# Altium footprint library mdriver2_control.PcbLib: 41 footprints (part 2 of 3)
Each footprint in its own frame and in the unit in brackets; x right, y up, seen from the top. Pads: shape width x height; smd on the part's side, far side on the other; paste and mask are expansions set on the pad; w line width, h text height; cw(c..) or ccw(c..) is an arc to the next point about the centre after c.
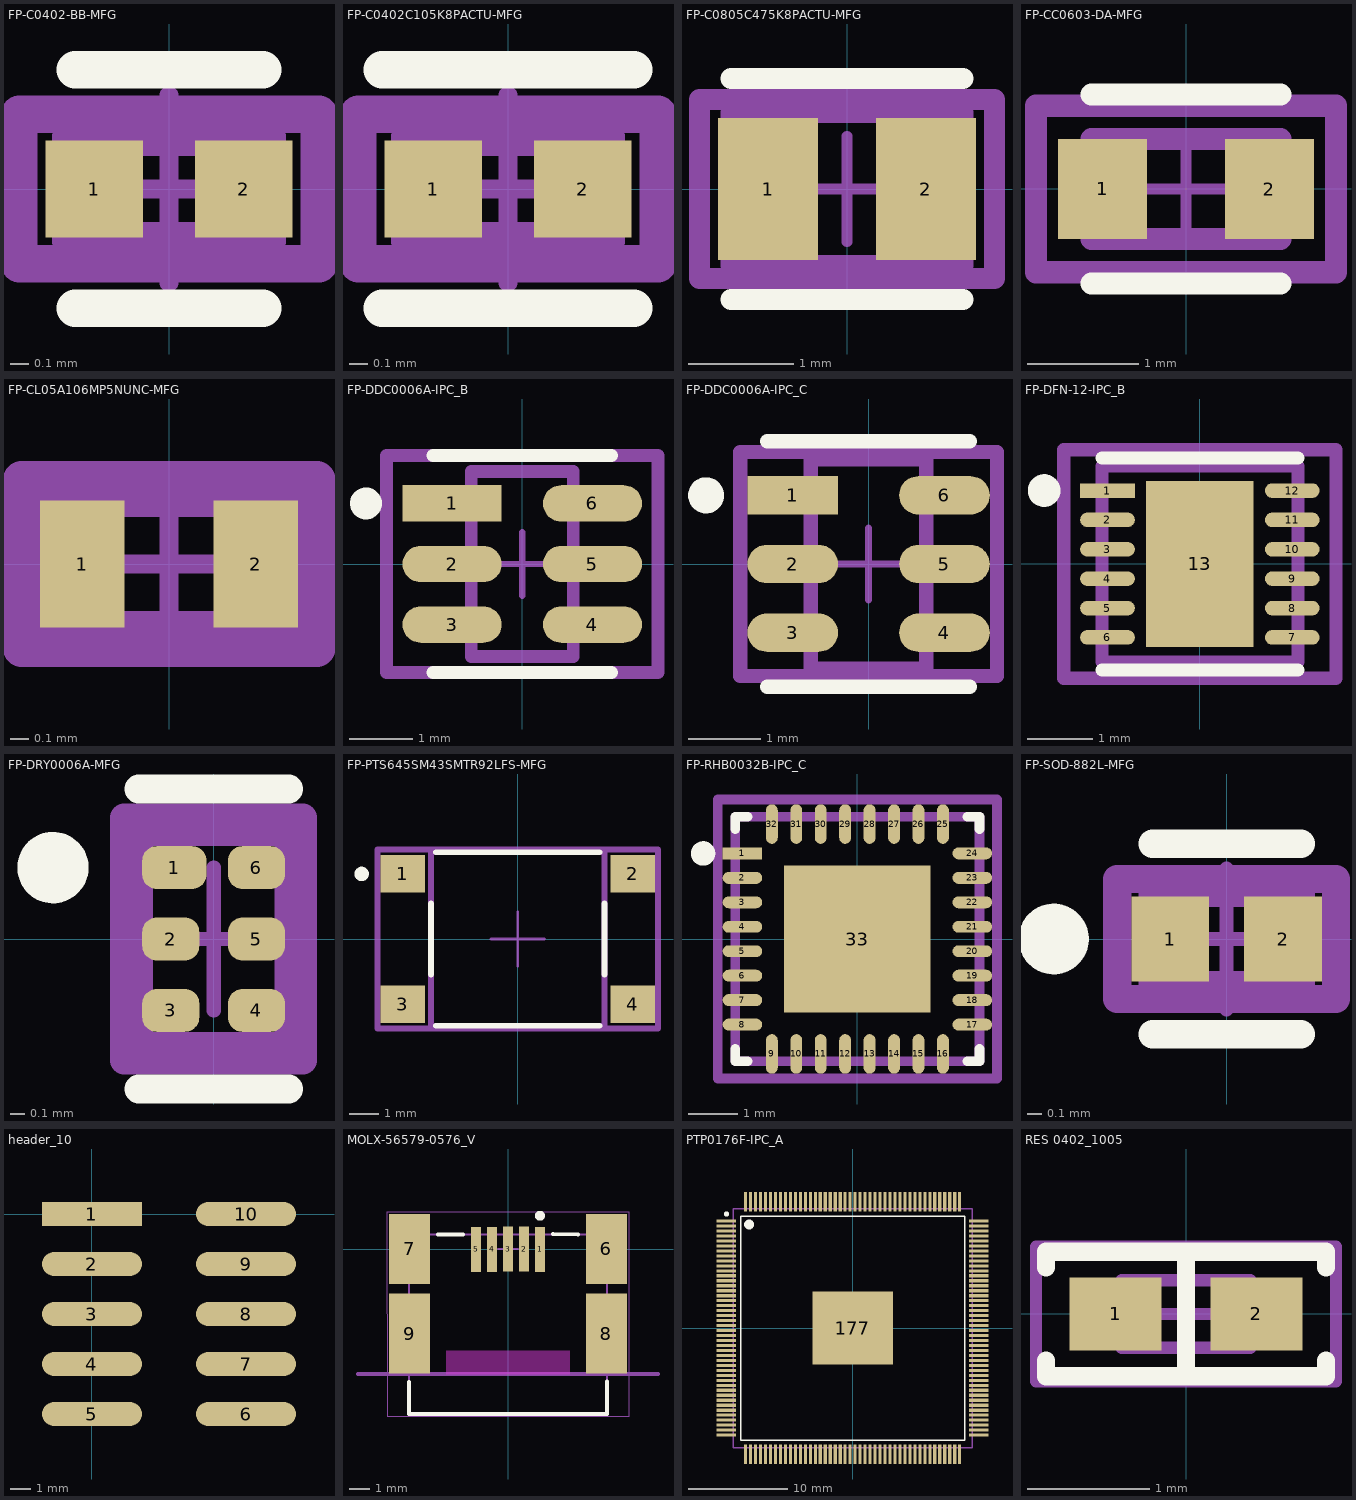
[diagram p1: the footprints below, top view; thin cyan lines are the x and y axes]

## FP-C0402-BB-MFG [mm]
pads (2):
  rect 0.52x0.52 smd paste+0 mask+0: 1(-0.4,0) 2(0.4,0)
Top Overlay:
  lines w0.2: -0.5,-0.635 0.5,-0.635 ; -0.5,0.635 0.5,0.635
Top 3D Body:
  lines w0.2: -0.525,-0.275 0.525,-0.275 0.525,0.275 -0.525,0.275 -0.525,-0.275
Top Courtyard:
  lines w0.2: -0.8,-0.4 0.8,-0.4 0.8,0.4 -0.8,0.4 -0.8,-0.4
Top Assembly:
  lines w0.2: -0.8,-0.4 0.8,-0.4 0.8,0.4 -0.8,0.4 -0.8,-0.4
  text ".Designator" at 0,0.188 h1
Top Component Center:
  lines w0.1: -0.5,0 0.5,0 ; 0,-0.5 0,0.5
3D body "Cap_Kemet_C0402C470J5GACTU_eec.STEP": height 0.25, standoff 0, extent -0.8,-0.4 0.8,0.4

## FP-C0402C105K8PACTU-MFG [mm]
height 10.8
pads (2):
  rect 0.52x0.52 smd paste+0 mask+0: 1(-0.4,0) 2(0.4,0)
Top Overlay:
  lines w0.2: -0.67,-0.635 0.67,-0.635 ; -0.67,0.635 0.67,0.635
Top 3D Body:
  lines w0.2: -0.525,-0.275 0.525,-0.275 0.525,0.275 -0.525,0.275 -0.525,-0.275
Top Courtyard:
  lines w0.2: -0.8,-0.4 0.8,-0.4 0.8,0.4 -0.8,0.4 -0.8,-0.4
Top Assembly:
  lines w0.2: -0.8,-0.4 0.8,-0.4 0.8,0.4 -0.8,0.4 -0.8,-0.4
  text ".Designator" at 0,0.188 h1
Top Component Center:
  lines w0.1: -0.5,0 0.5,0 ; 0,-0.5 0,0.5
3D body "Cap_Kemet_C0402C105K8PACTU_eec.STEP": height 0.25, standoff 0, extent -0.8,-0.4 0.8,0.4

## FP-C0805C475K8PACTU-MFG [mm]
height 10.9
pads (2):
  rect 0.95x1.35 smd paste+0 mask+0: 1(-0.75,0) 2(0.75,0)
Top Overlay:
  lines w0.2: -1.1,-1.05 1.1,-1.05 ; -1.1,1.05 1.1,1.05
Top 3D Body:
  lines w0.2: -1.1,-0.725 -1.1,0.725 1.1,0.725 1.1,-0.725 -1.1,-0.725
Top Courtyard:
  lines w0.2: -1.4,-0.85 -1.4,0.85 1.4,0.85 1.4,-0.85 -1.4,-0.85
Top Assembly:
  lines w0.2: -1.4,-0.85 -1.4,0.85 1.4,0.85 1.4,-0.85 -1.4,-0.85
  text ".Designator" at 0,0.188 h1
Top Component Center:
  lines w0.1: -0.5,0 0.5,0 ; 0,-0.5 0,0.5
3D body "Cap_Kemet_C0805C475K8PACTU_eec.STEP": height 0.25, standoff 0, extent -1.4,-0.85 1.4,0.85

## FP-CC0603-DA-MFG [mm]
height 10.9
pads (2):
  rect 0.8x0.9 smd paste+0 mask+0: 1(-0.75,0) 2(0.75,0)
Top Overlay:
  lines w0.2: -0.85,-0.85 0.85,-0.85 ; -0.85,0.85 0.85,0.85
Top 3D Body:
  lines w0.2: -0.85,-0.45 0.85,-0.45 0.85,0.45 -0.85,0.45 -0.85,-0.45
Top Courtyard:
  lines w0.2: -1.35,-0.75 1.35,-0.75 1.35,0.75 -1.35,0.75 -1.35,-0.75
Top Assembly:
  lines w0.2: -1.35,-0.75 1.35,-0.75 1.35,0.75 -1.35,0.75 -1.35,-0.75
  text ".Designator" at 0,0.188 h1
Top Component Center:
  lines w0.1: -0.5,0 0.5,0 ; 0,-0.5 0,0.5
3D body "Cap_YAGEO_CC0603KRX7R9BB271_eec.STEP": height 0.25, standoff 0, extent -1.35,-0.75 1.35,0.75

## FP-CL05A106MP5NUNC-MFG [mm]
pads (2):
  rect 0.45x0.675 smd paste+0 mask+0: 1(-0.463,0) 2(0.463,0)
Top 3D Body:
  lines w0.2: -0.6,-0.35 0.6,-0.35 0.6,0.35 -0.6,0.35 -0.6,-0.35
Top Courtyard:
  lines w0.2: -0.787,-0.45 0.787,-0.45 0.787,0.45 -0.787,0.45 -0.787,-0.45
Top Assembly:
  lines w0.2: -0.787,-0.45 0.787,-0.45 0.787,0.45 -0.787,0.45 -0.787,-0.45
  text ".Designator" at 0,0.188 h1
Top Component Center:
  lines w0.1: -0.5,0 0.5,0 ; 0,-0.5 0,0.5
3D body "Cap_Samsung_CL05A106MP5NUNC_eec.STEP": height 0.25, standoff 0, extent -0.787,-0.45 0.787,0.45

## FP-DDC0006A-IPC_B [mm]
height 10.9
pads (6):
  rect 1.554x0.572 smd paste+0 mask+0: 1(-1.1,0.95)
  rrect100% 1.554x0.572 smd paste+0 mask+0: 2(-1.1,0) 3(-1.1,-0.95) 4(1.1,-0.95) 5(1.1,0) 6(1.1,0.95)
Top Overlay:
  circle w0.25: c-2.45,0.95 r0.125
  lines w0.2: -1.4,-1.7 1.4,-1.7 ; -1.4,1.7 1.4,1.7
Top 3D Body:
  lines w0.2: -0.8,-1.45 0.8,-1.45 0.8,1.45 -0.8,1.45 -0.8,-1.45
Top Courtyard:
  lines w0.2: -2.127,-1.7 2.127,-1.7 2.127,1.7 -2.127,1.7 -2.127,-1.7
Top Assembly:
  lines w0.2: -2.127,-1.7 2.127,-1.7 2.127,1.7 -2.127,1.7 -2.127,-1.7
  text ".Designator" at 0,0.188 h1
Top Component Center:
  lines w0.1: -0.5,0 0.5,0 ; 0,-0.5 0,0.5
3D body "IC_Texas_Instruments_TPS562201DDCT_eec.STEP": height 0.25, standoff 0, extent -2.127,-1.7 2.127,1.7

## FP-DDC0006A-IPC_C [mm]
height 10.9
pads (6):
  rect 1.254x0.532 smd paste+0 mask+0: 1(-1.05,0.95)
  rrect100% 1.254x0.532 smd paste+0 mask+0: 2(-1.05,0) 3(-1.05,-0.95) 4(1.05,-0.95) 5(1.05,0) 6(1.05,0.95)
Top Overlay:
  circle w0.25: c-2.25,0.95 r0.125
  lines w0.2: -1.4,-1.7 1.4,-1.7 ; -1.4,1.7 1.4,1.7
Top 3D Body:
  lines w0.2: -0.8,-1.45 0.8,-1.45 0.8,1.45 -0.8,1.45 -0.8,-1.45
Top Courtyard:
  lines w0.2: -1.777,-1.55 1.777,-1.55 1.777,1.55 -1.777,1.55 -1.777,-1.55
Top Assembly:
  lines w0.2: -1.777,-1.55 1.777,-1.55 1.777,1.55 -1.777,1.55 -1.777,-1.55
  text ".Designator" at 0,0.188 h1
Top Component Center:
  lines w0.1: -0.5,0 0.5,0 ; 0,-0.5 0,0.5
3D body "IC_Texas_Instruments_TPS562201DDCT_eec.STEP": height 0.25, standoff 0, extent -1.777,-1.55 1.777,1.55

## FP-DFN-12-IPC_B [mm]
pads (13):
  rect 0.84x0.222 smd paste+0 mask+0: 1(-1.416,1.125)
  rrect100% 0.84x0.222 smd paste+0 mask+0: 2(-1.416,0.675) 3(-1.416,0.225) 4(-1.416,-0.225) 5(-1.416,-0.675) 6(-1.416,-1.125) 7(1.416,-1.125) 8(1.416,-0.675) 9(1.416,-0.225) 10(1.416,0.225) 11(1.416,0.675) 12(1.416,1.125)
  rect 1.65x2.55 smd paste-1000 mask+0: 13(0,0)
Top Overlay:
  circle w0.25: c-2.385,1.125 r0.125
  lines w0.2: -1.5,-1.625 1.5,-1.625 ; -1.5,1.625 1.5,1.625
Top Paste:
  rectangle: -0.461,-0.911 0.462,0.912
Top 3D Body:
  lines w0.2: -1.5,-1.5 -1.5,1.5 1.5,1.5 1.5,-1.5 -1.5,-1.5
Top Courtyard:
  lines w0.2: -2.085,-1.75 -2.085,1.75 2.085,1.75 2.085,-1.75 -2.085,-1.75
Top Assembly:
  lines w0.2: -2.085,-1.75 -2.085,1.75 2.085,1.75 2.085,-1.75 -2.085,-1.75
  text ".Designator" at 0,0 h1
Top Component Center:
  lines w0.1: -0.5,0 0.5,0 ; 0,-0.5 0,0.5

## FP-DRY0006A-MFG [mm]
height 13.6
pads (6):
  rrect67% 0.45x0.3 smd paste-1000 mask-1000: 1(-0.275,0.5)
  rrect67% 0.4x0.3 smd paste-1000 mask-1000: 2(-0.3,0) 3(-0.3,-0.5) 4(0.3,-0.5) 5(0.3,0) 6(0.3,0.5)
Top Overlay:
  circle w0.25: c-1.125,0.5 r0.125
  lines w0.2: -0.525,-1.05 0.525,-1.05 ; -0.525,1.05 0.525,1.05
Top Paste:
  drawing of 7 lines, arcs and shapes, not listed
Top Solder:
  drawing of 6 lines, arcs and shapes, not listed
Top 3D Body:
  lines w0.2: -0.525,-0.75 0.525,-0.75 0.525,0.75 -0.525,0.75 -0.525,-0.75
Top Courtyard:
  lines w0.2: -0.625,-0.85 0.625,-0.85 0.625,0.85 -0.625,0.85 -0.625,-0.85
Top Assembly:
  lines w0.2: -0.625,-0.85 0.625,-0.85 0.625,0.85 -0.625,0.85 -0.625,-0.85
  text ".Designator" at 0,0.188 h1
Top Component Center:
  lines w0.1: -0.5,0 0.5,0 ; 0,-0.5 0,0.5
3D body "IC_Texas_Instruments_TLV4062DRYR_eec.STEP": height 0.25, standoff 0, extent -0.625,-0.85 0.625,0.85

## FP-PTS645SM43SMTR92LFS-MFG [mm]
height 10.9
pads (4):
  rect 1.55x1.3 smd paste+0 mask+0: 1(-3.975,2.25) 2(3.975,2.25) 3(-3.975,-2.25) 4(3.975,-2.25)
Top Overlay:
  circle w0.25: c-5.4,2.25 r0.125
  lines w0.2: -3,-1.225 -3,1.225 ; -2.825,-3 2.825,-3 ; -2.825,3 2.825,3 ; 3,-1.225 3,1.225
Top 3D Body:
  lines w0.2: -3,-3 -3,3 3,3 3,-3 -3,-3
Top Courtyard:
  lines w0.2: -4.85,-3.1 -4.85,3.1 4.85,3.1 4.85,-3.1 -4.85,-3.1
Top Assembly:
  lines w0.2: -4.85,-3.1 -4.85,3.1 4.85,3.1 4.85,-3.1 -4.85,-3.1
  text ".Designator" at 0,0.188 h1
Top Component Center:
  lines w0.1: -0.93,0 0.93,0 ; 0,-0.93 0,0.93
3D body "Switch_C&K_PTS645SM43SMTR92LFS_eec.STEP": height 0.25, standoff 0, extent -4.85,-3.1 4.85,3.1

## FP-RHB0032B-IPC_C [mm]
height 10.9
pads (33):
  rect 0.81x0.242 smd paste+0 mask+0: 1(-2.351,1.75)
  rrect100% 0.81x0.242 smd paste+0 mask+0: 2(-2.351,1.25) 3(-2.351,0.75) 4(-2.351,0.25) 5(-2.351,-0.25) 6(-2.351,-0.75) 7(-2.351,-1.25) 8(-2.351,-1.75) 17(2.351,-1.75) 18(2.351,-1.25) 19(2.351,-0.75) 20(2.351,-0.25) 21(2.351,0.25) 22(2.351,0.75) 23(2.351,1.25) 24(2.351,1.75)
  rrect100% 0.242x0.81 smd paste+0 mask+0: 9(-1.75,-2.351) 10(-1.25,-2.351) 11(-0.75,-2.351) 12(-0.25,-2.351) 13(0.25,-2.351) 14(0.75,-2.351) 15(1.25,-2.351) 16(1.75,-2.351) 25(1.75,2.351) 26(1.25,2.351) 27(0.75,2.351) 28(0.25,2.351) 29(-0.25,2.351) 30(-0.75,2.351) 31(-1.25,2.351) 32(-1.75,2.351)
  rect 3x3 smd paste-1000 mask+0: 33(0,0)
Top Overlay:
  circle w0.25: c-3.156,1.75 r0.125
  lines w0.2: -2.5,-2.25 -2.5,-2.5 -2.25,-2.5 ; -2.5,2.25 -2.5,2.5 -2.25,2.5 ; 2.25,-2.5 2.5,-2.5 2.5,-2.25 ; 2.25,2.5 2.5,2.5 2.5,2.25
Top Paste:
  rectangle: -0.949,-0.949 0.949,0.949
Top 3D Body:
  lines w0.2: -2.5,-2.5 2.5,-2.5 2.5,2.5 -2.5,2.5 -2.5,-2.5
Top Courtyard:
  lines w0.2: -2.856,-2.856 2.856,-2.856 2.856,2.856 -2.856,2.856 -2.856,-2.856
Top Assembly:
  lines w0.2: -2.856,-2.856 2.856,-2.856 2.856,2.856 -2.856,2.856 -2.856,-2.856
  text ".Designator" at 0,0.188 h1
Top Component Center:
  lines w0.1: -0.5,0 0.5,0 ; 0,-0.5 0,0.5
3D body "IC_Texas_Instruments_DP83822HRHBR_eec.STEP": height 0.25, standoff 0, extent -2.856,-2.856 2.856,2.856

## FP-SOD-882L-MFG [mm]
pads (2):
  rect 0.55x0.6 smd paste+0 mask+0: 1(-0.4,0) 2(0.4,0)
Top Overlay:
  circle w0.25: c-1.225,0 r0.125
  lines w0.2: -0.525,-0.675 0.525,-0.675 ; -0.525,0.675 0.525,0.675
Top 3D Body:
  lines w0.2: -0.525,-0.325 -0.525,0.325 0.525,0.325 0.525,-0.325 -0.525,-0.325
Top Courtyard:
  lines w0.2: -0.775,-0.425 -0.775,0.425 0.775,0.425 0.775,-0.425 -0.775,-0.425
Top Assembly:
  lines w0.2: -0.775,-0.425 -0.775,0.425 0.775,0.425 0.775,-0.425 -0.775,-0.425
  text ".Designator" at 0,0 h1
Top Component Center:
  lines w0.1: -0.5,0 0.5,0 ; 0,-0.5 0,0.5
3D body "Diode_Central_Semiconductor_CFSH05-20L_TR_PBFREE_eec.STEP": height 0.25, standoff 0, extent -0.775,-0.425 0.775,0.425

## header_10 [mm]
pads (10):
  rect 5x1.2 smd: 1(0,0)
  oval 5x1.2 smd: 2(0,-2.5) 3(0,-5) 4(0,-7.5) 5(0,-10) 6(7.7,-10) 7(7.7,-7.5) 8(7.7,-5) 9(7.7,-2.5) 10(7.7,0)
3D body "3010-10-003-13-00 3D.STP": height 29.62, standoff 1.4, extent -1.6,-21 9.4,11

## MOLX-56579-0576_V [mm] "SMD, 5-Leads, body 9.9x9mm, Pitch 0.8mm"
height 3.95
pads (9):
  rect 0.5x2.25 smd: 1(1.6,0) 2(0.8,0) 3(0,0) 4(-0.8,0) 5(-1.6,0)
  rect 2.05x3.5 smd: 6(4.925,0.025) 7(-4.925,0.025)
  rect 2.05x4 smd: 8(4.925,-4.225) 9(-4.925,-4.225)
Top Layer keep-out:
  rectangle: -3.1,-6.25 3.1,-5.05
Top Overlay:
  circle w0.25: c1.6,1.675 r0.125
  lines w0.2: -4.95,-6.625 -4.95,-8.25 4.95,-8.25 4.95,-6.625 ; -3.5,0.75 -2.25,0.75 ; 2.25,0.75 3.5,0.75
Mechanical 1:
  lines w0.2: -7.5,-6.25 7.5,-6.25
  text "PCB EDGE" at -12.7,-7.62 h0.9
Mechanical 13:
  lines w0.1: -4.95,-8.25 -4.95,0.75 4.95,0.75 4.95,-8.25 -4.95,-8.25
Mechanical 15:
  lines w0.05: -6.05,-8.35 6.05,-8.35 6.05,1.875 -6.05,1.875 -6.05,-8.35
  lines w0.1: -0.5,0 0.5,0 ; 0,-0.5 0,0.5
3D body "565790576.stp": height 3.93, standoff -0.03, extent -4.95,-8.25 4.95,0.75

## PTP0176F-IPC_A [mm]
height 2.65
pads (177):
  rect 1.955x0.312 smd paste+0 mask+0: 1(-12.675,10.75) 2(-12.675,10.25) 3(-12.675,9.75) 4(-12.675,9.25) 5(-12.675,8.75) 6(-12.675,8.25) 7(-12.675,7.75) 8(-12.675,7.25) 9(-12.675,6.75) 10(-12.675,6.25) 11(-12.675,5.75) 12(-12.675,5.25) 13(-12.675,4.75) 14(-12.675,4.25) 15(-12.675,3.75) 16(-12.675,3.25) 17(-12.675,2.75) 18(-12.675,2.25) 19(-12.675,1.75) 20(-12.675,1.25) 21(-12.675,0.75) 22(-12.675,0.25) 23(-12.675,-0.25) 24(-12.675,-0.75) 25(-12.675,-1.25) 26(-12.675,-1.75) 27(-12.675,-2.25) 28(-12.675,-2.75) 29(-12.675,-3.25) 30(-12.675,-3.75) 31(-12.675,-4.25) 32(-12.675,-4.75) 33(-12.675,-5.25) 34(-12.675,-5.75) 35(-12.675,-6.25) 36(-12.675,-6.75) 37(-12.675,-7.25) 38(-12.675,-7.75) 39(-12.675,-8.25) 40(-12.675,-8.75) 41(-12.675,-9.25) 42(-12.675,-9.75) 43(-12.675,-10.25) 44(-12.675,-10.75) 89(12.675,-10.75) 90(12.675,-10.25) 91(12.675,-9.75) 92(12.675,-9.25) 93(12.675,-8.75) 94(12.675,-8.25) 95(12.675,-7.75) 96(12.675,-7.25) 97(12.675,-6.75) 98(12.675,-6.25) 99(12.675,-5.75) 100(12.675,-5.25) 101(12.675,-4.75) 102(12.675,-4.25) 103(12.675,-3.75) 104(12.675,-3.25) 105(12.675,-2.75) 106(12.675,-2.25) 107(12.675,-1.75) 108(12.675,-1.25) 109(12.675,-0.75) 110(12.675,-0.25) 111(12.675,0.25) 112(12.675,0.75) 113(12.675,1.25) 114(12.675,1.75) 115(12.675,2.25) 116(12.675,2.75) 117(12.675,3.25) 118(12.675,3.75) 119(12.675,4.25) 120(12.675,4.75) 121(12.675,5.25) 122(12.675,5.75) 123(12.675,6.25) 124(12.675,6.75) 125(12.675,7.25) 126(12.675,7.75) 127(12.675,8.25) 128(12.675,8.75) 129(12.675,9.25) 130(12.675,9.75) 131(12.675,10.25) 132(12.675,10.75)
  rect 0.312x1.955 smd paste+0 mask+0: 45(-10.75,-12.675) 46(-10.25,-12.675) 47(-9.75,-12.675) 48(-9.25,-12.675) 49(-8.75,-12.675) 50(-8.25,-12.675) 51(-7.75,-12.675) 52(-7.25,-12.675) 53(-6.75,-12.675) 54(-6.25,-12.675) 55(-5.75,-12.675) 56(-5.25,-12.675) 57(-4.75,-12.675) 58(-4.25,-12.675) 59(-3.75,-12.675) 60(-3.25,-12.675) 61(-2.75,-12.675) 62(-2.25,-12.675) 63(-1.75,-12.675) 64(-1.25,-12.675) 65(-0.75,-12.675) 66(-0.25,-12.675) 67(0.25,-12.675) 68(0.75,-12.675) 69(1.25,-12.675) 70(1.75,-12.675) 71(2.25,-12.675) 72(2.75,-12.675) 73(3.25,-12.675) 74(3.75,-12.675) 75(4.25,-12.675) 76(4.75,-12.675) 77(5.25,-12.675) 78(5.75,-12.675) 79(6.25,-12.675) 80(6.75,-12.675) 81(7.25,-12.675) 82(7.75,-12.675) 83(8.25,-12.675) 84(8.75,-12.675) 85(9.25,-12.675) 86(9.75,-12.675) 87(10.25,-12.675) 88(10.75,-12.675) 133(10.75,12.675) 134(10.25,12.675) 135(9.75,12.675) 136(9.25,12.675) 137(8.75,12.675) 138(8.25,12.675) 139(7.75,12.675) 140(7.25,12.675) 141(6.75,12.675) 142(6.25,12.675) 143(5.75,12.675) 144(5.25,12.675) 145(4.75,12.675) 146(4.25,12.675) 147(3.75,12.675) 148(3.25,12.675) 149(2.75,12.675) 150(2.25,12.675) 151(1.75,12.675) 152(1.25,12.675) 153(0.75,12.675) 154(0.25,12.675) 155(-0.25,12.675) 156(-0.75,12.675) 157(-1.25,12.675) 158(-1.75,12.675) 159(-2.25,12.675) 160(-2.75,12.675) 161(-3.25,12.675) 162(-3.75,12.675) 163(-4.25,12.675) 164(-4.75,12.675) 165(-5.25,12.675) 166(-5.75,12.675) 167(-6.25,12.675) 168(-6.75,12.675) 169(-7.25,12.675) 170(-7.75,12.675) 171(-8.25,12.675) 172(-8.75,12.675) 173(-9.25,12.675) 174(-9.75,12.675) 175(-10.25,12.675) 176(-10.75,12.675)
  rect 8.07x7.33 smd paste-4.022 mask+0: 177(0,0)
Top Overlay:
  circle w0.25: c-12.675,11.46 r0.125
  circle w0.5: c-10.4,10.4 r0.25
  lines w0.15: -11.25,-11.25 11.25,-11.25 11.25,11.25 -11.25,11.25 -11.25,-11.25
Top Paste:
  region: -3.33,2.96 -3.33,1.457 -1.58,1.457 -1.58,2.96
  region: -0.875,2.96 -0.875,1.457 0.875,1.457 0.875,2.96
  region: 1.58,2.96 1.58,1.457 3.33,1.457 3.33,2.96
  region: -3.33,0.751 -3.33,-0.751 -1.58,-0.751 -1.58,0.751
  region: -0.875,0.751 -0.875,-0.751 0.875,-0.751 0.875,0.751
  region: 1.58,0.751 1.58,-0.751 3.33,-0.751 3.33,0.751
  region: -3.33,-1.457 -3.33,-2.96 -1.58,-2.96 -1.58,-1.457
  region: -0.875,-1.457 -0.875,-2.96 0.875,-2.96 0.875,-1.457
  region: 1.58,-1.457 1.58,-2.96 3.33,-2.96 3.33,-1.457
Mechanical 13:
  lines w0.15: -12,-12 12,-12 12,12 -12,12 -12,-12

## RES 0402_1005 [mm] "Chip Resistor, 2-Leads, Body 1.0x0.5mm, IPC Medium Density"
height 0.4
pads (2):
  rect 0.75x0.6 smd: 1(-0.575,0) 2(0.575,0)
Top Overlay:
  lines w0.15: -1.143,-0.381 -1.143,-0.508 1.143,-0.508 1.143,-0.381 ; -1.143,0.381 -1.143,0.508 1.143,0.508 1.143,0.381 ; 0,-0.508 0,0.508
Mechanical 13:
  lines w0.1: -0.525,-0.275 0.525,-0.275 0.525,0.275 -0.525,0.275 -0.525,-0.275
Mechanical 15:
  lines w0.1: -0.275,0 0.275,0 ; 0,-0.275 0,0.275 ; -1.225,-0.55 1.225,-0.55 1.225,0.55 -1.225,0.55 -1.225,-0.55
3D body "0402 resistor.STEP": height 0.35, standoff 0, extent -0.5,-0.25 0.5,0.25